# Altium footprint library PcbLibrary.PcbLib: 4 footprints
Each footprint in its own frame and in the unit in brackets; x right, y up, seen from the top. Pads: shape width x height; smd on the part's side, far side on the other; paste and mask are expansions set on the pad; w line width, h text height; cw(c..) or ccw(c..) is an arc to the next point about the centre after c.
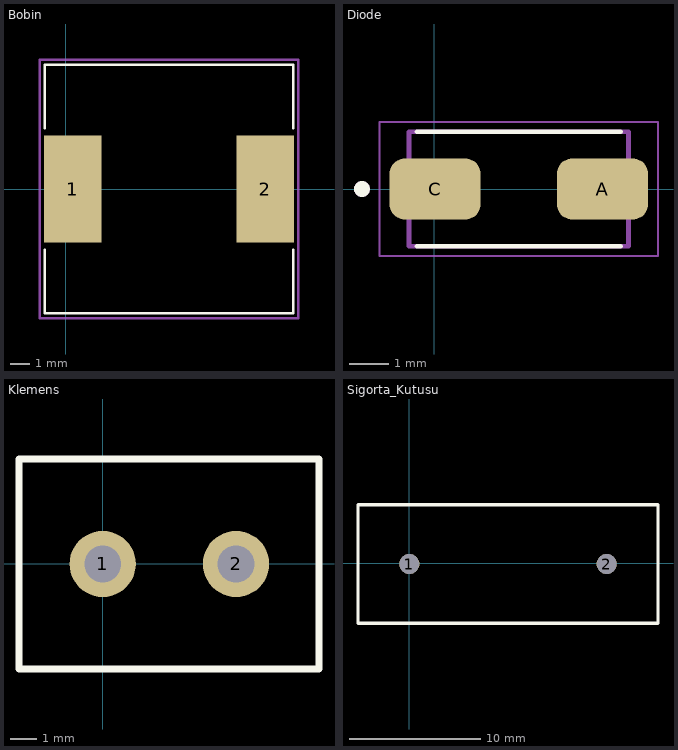
[diagram p0: the footprints below, top view; thin cyan lines are the x and y axes]

## Bobin [mm]
pads (2):
  rect 2.9x5.4 smd: 1(0.357,0) 2(10.057,0)
Top Overlay:
  lines w0.127: -1.043,-3.05 -1.043,-6.25 11.457,-6.25 11.457,-3.05 ; -1.043,3.05 -1.043,6.25 11.457,6.25 11.457,3.05
Mechanical 15:
  lines w0.127: -1.293,-6.5 11.707,-6.5 11.707,6.5 -1.293,6.5 -1.293,-6.5

## Diode [mm]
pads (2):
  rrect50% 2.33x1.55 smd: A(4.294,0) C(0.024,0)
Top Overlay:
  circle w0.2: c-1.841,0 r0.1
  lines w0.127: -0.441,-1.46 4.759,-1.46 ; -0.441,1.46 4.759,1.46
Mechanical 13:
  circle w0.2: c-1.841,0 r0.1
  lines w0.127: -0.641,-1.46 4.959,-1.46 4.959,1.46 -0.641,1.46 -0.641,-1.46
Mechanical 15:
  lines w0.05: -1.391,-1.71 5.709,-1.71 5.709,1.71 -1.391,1.71 -1.391,-1.71

## Klemens [mm]
pads (2):
  round 2.524 hole 1.4: 1(0,0) 2(5.08,0)
Top Overlay:
  lines w0.254: 8.17,-4.001 -3.19,-4.001 -3.19,4 8.17,4 ; 8.24,-4 8.24,4

## Sigorta_Kutusu [mm]
pads (2):
  round 1.524 hole 1.5: 1(-0.005,-0.04) 2(14.995,-0.04)
Top Overlay:
  lines w0.254: -3.905,-4.54 -3.905,4.46 18.895,4.46 18.895,-4.54 -3.905,-4.54